# EAGLE library part BM1383AGLV-ZE2 (library BM1383AGLV-ZE2)
Pressure Sensor 30kPa to 110kPa 12-Pin CLGA T/R Check availability <https://pricing.snapeda.com/parts/BM1383AGLV-ZE2/Rohm/view-part?ref=eda>
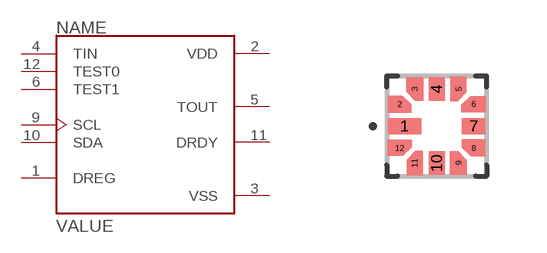
[diagram p0: symbol with the pads of PQFN55P250X250X100-12N; footprint PQFN55P250X250X100-12N]

Designator prefix U

## BM1383AGLV-ZE2 (Availability: In Stock; Description: Pressure Sensor 4.35PSI ~ 15.95PSI (30kPa ~ 110kPa) Absolute - 16 b 12-VFLGA; MF: Rohm; MP: BM1383AGLV-ZE2; Package: VFLGA-12 Rohm; Price: None; Purchase-URL: https://pricing.snapeda.com/search/part/BM1383AGLV-ZE2/?ref=eda)  [PQFN55P250X250X100-12N]
1  DREG  pas
2  VDD  pwr
3  VSS  pwr
4  TIN  in
5  TOUT  out
6  TEST1  in
9  SCL  in
10  SDA
11  DRDY  out
12  TEST0  in

## Footprint PQFN55P250X250X100-12N (pad centres in mm)
smd 0.83 x 0.4: 1 -0.8,0
smd 0.1 x 0.1: 2 -0.925,0.55; 3 -0.55,0.925; 5 0.55,0.925; 6 0.925,0.55; 8 0.925,-0.55; 9 0.55,-0.925; 11 -0.55,-0.925; 12 -0.925,-0.55
smd 0.4 x 0.58: 4 0,0.925; 10 0,-0.925
smd 0.58 x 0.4: 7 0.925,0